# Altium schematic symbol library ADG1409YRUZ.SchLib: 1 symbol
Pins are listed as number, name and electrical type; pins without a type are passive.

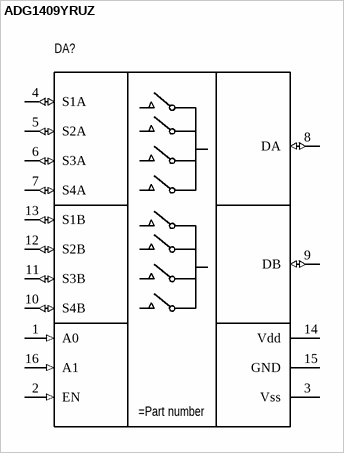
[diagram p0: symbol ADG1409YRUZ]

## ADG1409YRUZ
designator DA?
4 Ω RON , 4-/8-Channel ±15 V/+12 V/±5 V iCMOS Multiplexer
pins: 1 A0 (in), 2 EN (in), 3 Vss (power), 4 S1A (io), 5 S2A (io), 6 S3A (io), 7 S4A (io), 8 DA (io), 9 DB (io), 10 S4B (io), 11 S3B (io), 12 S2B (io), 13 S1B (io), 14 Vdd (power), 15 GND (power), 16 A1 (in)